# Altium footprint library Connector_THT.PcbLib: 26 footprints (part 1 of 2)
Each footprint in its own frame and in the unit in brackets; x right, y up, seen from the top. Pads: shape width x height; smd on the part's side, far side on the other; paste and mask are expansions set on the pad; w line width, h text height; cw(c..) or ccw(c..) is an arc to the next point about the centre after c.
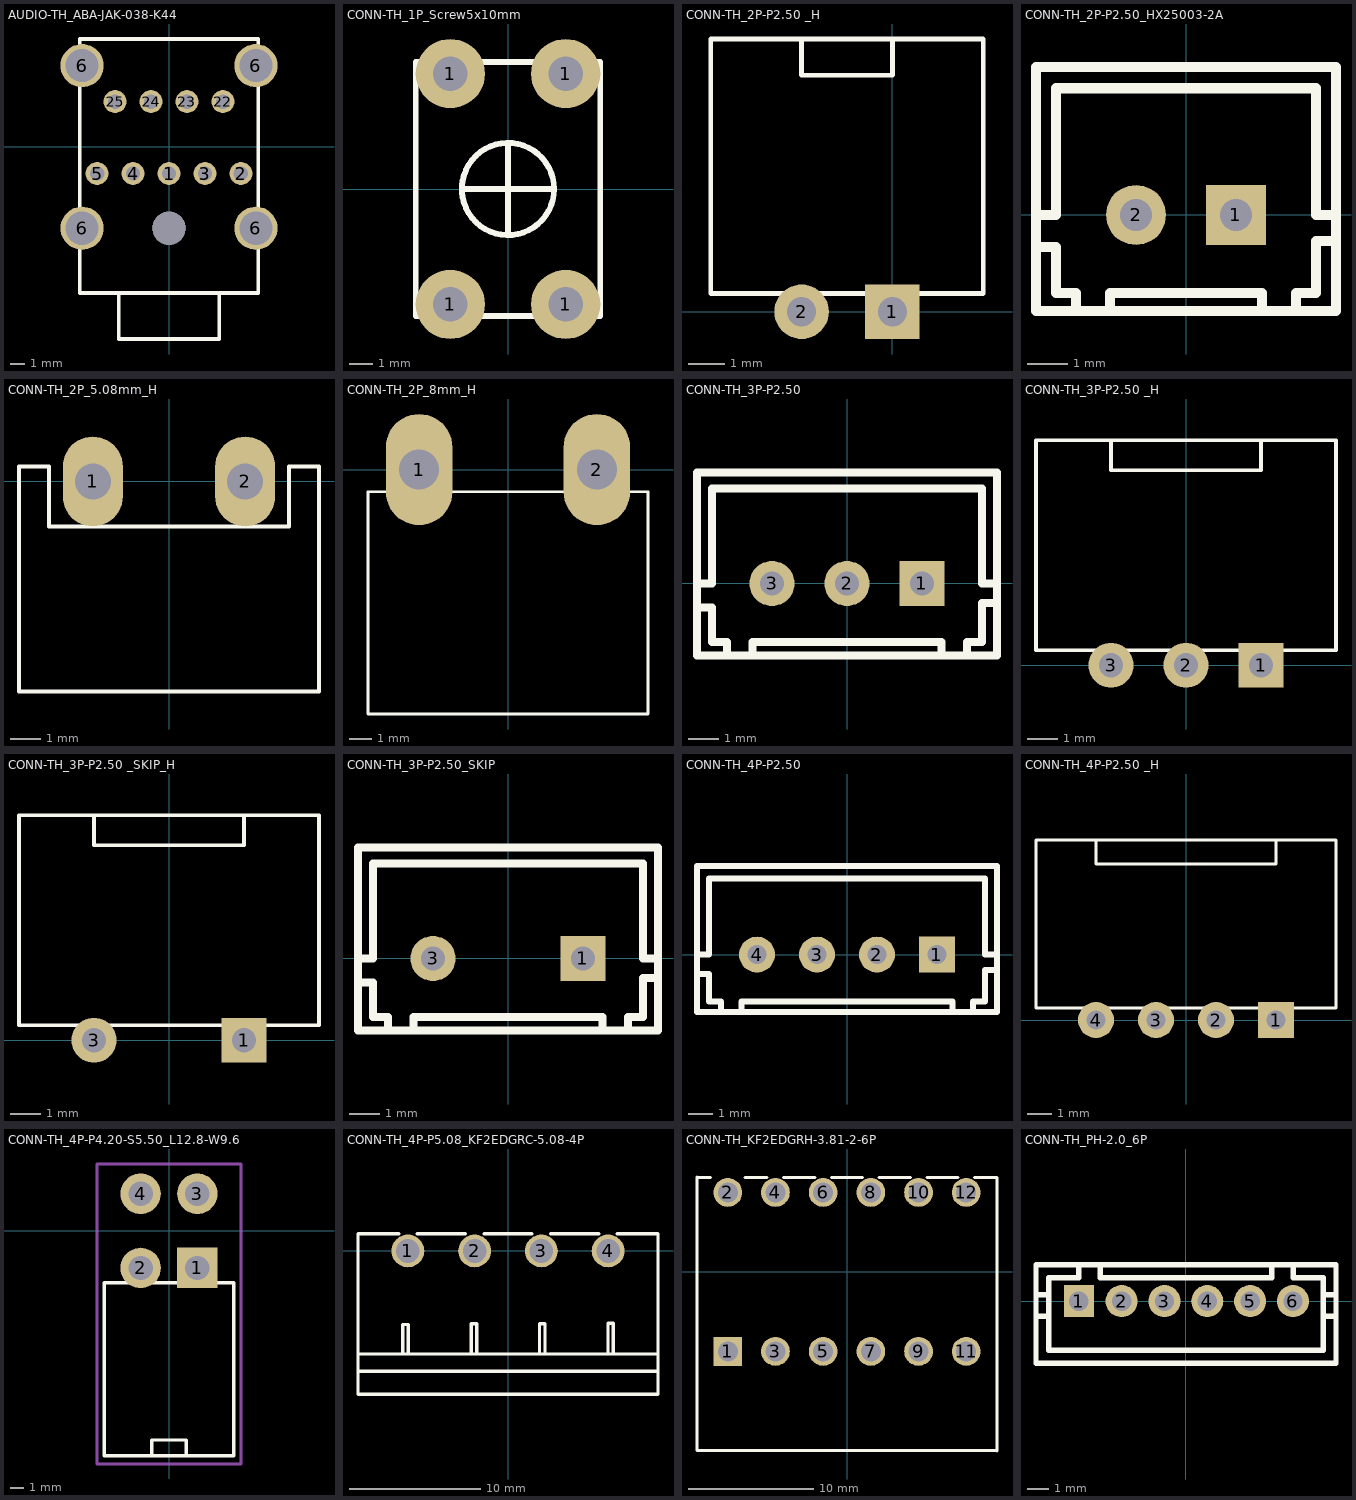
[diagram p0: the footprints below, top view; thin cyan lines are the x and y axes]

## AUDIO-TH_ABA-JAK-038-K44 [mm]
pads (14):
  round 1.6 hole 1: 1(0,-1.85) 2(5,-1.85) 3(2.5,-1.85) 4(-2.5,-1.85) 5(-5,-1.85) 22(3.75,3.15) 23(1.25,3.15) 24(-1.25,3.15) 25(-3.75,3.15)
  round 3 hole 2.3: 6(-6.04,-5.65) 6(-6.04,5.65) 6(6.04,-5.65) 6(6.04,5.65)
  round 2.3 hole 2.3 unplated: ""(0,-5.65)
Top Overlay:
  lines w0.254: -6.2,-6.792 -6.2,-10.15 6.2,-10.15 6.2,-6.792 ; -6.2,-4.508 -6.2,4.508 ; -6.2,6.792 -6.2,7.5 6.2,7.5 6.2,6.792 ; -3.5,-10.15 -3.5,-13.35 3.5,-13.35 3.5,-10.15 ; 6.2,-4.508 6.2,4.508

## CONN-TH_1P_Screw5x10mm [mm]
pads (4):
  round 3 hole 1.5: 1(-2.5,-5) 1(-2.5,5) 1(2.5,-5) 1(2.5,5)
Top Overlay:
  circle w0.254: c0,0 r2
  lines w0.254: -2,0 2,0 ; 0,-2 0,2 ; -4,-5.5 4,-5.5 4,5.5 -4,5.5 -4,-5.5

## CONN-TH_2P-P2.50 _H [mm]
pads (2):
  rect 1.5x1.5 hole 0.8: 1(0,0)
  round 1.5 hole 0.8: 2(-2.5,0)
Top Overlay:
  lines w0.127: -2.5,7.5 -2.5,6.5 0,6.5 0,7.5 ; -5,0.5 -5,7.5 2.5,7.5 2.5,0.5 -5,0.5

## CONN-TH_2P-P2.50_HX25003-2A [mm]
pads (2):
  rect 1.5x1.5 hole 0.8: 1(1.25,0)
  round 1.5 hole 0.8: 2(-1.25,0)
Top Overlay:
  lines w0.254: -3.75,1.501 -3.75,-0.8 -3.25,-0.8 -3.25,-1.95 -2.75,-1.95 -2.75,-2.399 ; -3.75,2.344 -3.75,0 -3.25,0 -3.25,2.344 -3.25,3.167 3.25,3.167 3.25,2.416 3.25,0 3.75,0 3.75,2.416 ; -1.9,-2.4 -1.9,-1.95 1.9,-1.95 1.9,-2.4 ; 2.75,-2.4 2.75,-1.95 3.25,-1.95 3.25,-0.65 3.75,-0.648 3.75,1.603 ; -3.75,-2.4 3.75,-2.4 3.75,3.7 -3.75,3.7 -3.75,-2.4
3D body "User Library-XH2_54_ZC_2P.STEP": height 7.1, standoff -3.9, extent -3.7,-2.35 3.7,3.45

## CONN-TH_2P_5.08mm_H [mm]
pads (2):
  oval 2x3 hole 1.2: 1(-2.54,0) 2(2.54,0)
Top Overlay:
  lines w0.127: -5,-7 -5,0.5 -4,0.5 -4,-1.5 4,-1.5 4,0.5 5,0.5 5,-7 -5,-7

## CONN-TH_2P_8mm_H [mm]
pads (2):
  oval 3x5 hole 1.8: 1(-4,0) 2(4,0)
Top Overlay:
  lines w0.127: -6.3,-11 6.3,-11 6.3,-1 -6.3,-1 -6.3,-11

## CONN-TH_3P-P2.50 [mm]
pads (3):
  rect 1.5x1.5 hole 0.8: 1(2.5,0)
  round 1.5 hole 0.8: 2(0,0) 3(-2.5,0)
Top Overlay:
  lines w0.254: -5,1.501 -5,-0.8 -4.5,-0.8 -4.5,-1.95 -4,-1.95 -4,-2.399 ; -5,2.344 -5,0 -4.5,0 -4.5,2.344 -4.5,3.167 4.5,3.167 4.5,2.416 4.5,0 5,0 5,2.416 ; -3.15,-2.4 -3.15,-1.95 3.15,-1.95 3.15,-2.4 ; 4,-2.4 4,-1.95 4.5,-1.95 4.5,-0.65 5,-0.648 5,1.603 ; -5,-2.4 -5,3.7 5,3.7 5,-2.4 -5,-2.4

## CONN-TH_3P-P2.50 _H [mm]
pads (3):
  rect 1.5x1.5 hole 0.8: 1(2.5,0)
  round 1.5 hole 0.8: 2(0,0) 3(-2.5,0)
Top Overlay:
  lines w0.127: -2.5,7.5 -2.5,6.5 2.5,6.5 2.5,7.5 ; -5,0.5 -5,7.5 5,7.5 5,0.5 -5,0.5

## CONN-TH_3P-P2.50 _SKIP_H [mm]
pads (2):
  rect 1.5x1.5 hole 0.8: 1(2.5,0)
  round 1.5 hole 0.8: 3(-2.5,0)
Top Overlay:
  lines w0.127: -2.5,7.5 -2.5,6.5 2.5,6.5 2.5,7.5 ; -5,0.5 5,0.5 5,7.5 -5,7.5 -5,0.5

## CONN-TH_3P-P2.50_SKIP [mm]
pads (2):
  rect 1.5x1.5 hole 0.8: 1(2.5,0)
  round 1.5 hole 0.8: 3(-2.5,0)
Top Overlay:
  lines w0.254: -5,1.501 -5,-0.8 -4.5,-0.8 -4.5,-1.95 -4,-1.95 -4,-2.399 ; -5,2.344 -5,0 -4.5,0 -4.5,2.344 -4.5,3.167 4.5,3.167 4.5,2.416 4.5,0 5,0 5,2.416 ; -3.15,-2.4 -3.15,-1.95 3.15,-1.95 3.15,-2.4 ; 4,-2.4 4,-1.95 4.5,-1.95 4.5,-0.65 5,-0.648 5,1.603 ; -5,-2.4 -5,3.7 5,3.7 5,-2.4 -5,-2.4

## CONN-TH_4P-P2.50 [mm]
pads (4):
  rect 1.5x1.5 hole 0.8: 1(3.75,0)
  round 1.5 hole 0.8: 2(1.25,0) 3(-1.25,0) 4(-3.75,0)
Top Overlay:
  lines w0.254: -6.25,1.501 -6.25,-0.8 -5.75,-0.8 -5.75,-1.95 -5.25,-1.95 -5.25,-2.399 ; -6.25,2.344 -6.25,0 -5.75,0 -5.75,2.344 -5.75,3.167 5.75,3.167 5.75,2.416 5.75,0 6.25,0 6.25,2.416 ; -4.4,-2.4 -4.4,-1.95 4.4,-1.95 4.4,-2.4 ; 5.25,-2.4 5.25,-1.95 5.75,-1.95 5.75,-0.65 6.25,-0.648 6.25,1.603 ; -6.25,-2.4 6.25,-2.4 6.25,3.7 -6.25,3.7 -6.25,-2.4
3D body "User Library-XH2_54-4P_step.STEP": height 7.1, standoff -1.7, extent -6.25,-2.4 6.25,3.4

## CONN-TH_4P-P2.50 _H [mm]
pads (4):
  rect 1.5x1.5 hole 0.8: 1(3.75,0)
  round 1.5 hole 0.8: 2(1.25,0) 3(-1.25,0) 4(-3.75,0)
Top Overlay:
  lines w0.127: -3.75,7.5 -3.75,6.5 3.75,6.5 3.75,7.5 ; -6.25,0.5 -6.25,7.5 6.25,7.5 6.25,0.5 -6.25,0.5

## CONN-TH_4P-P4.20-S5.50_L12.8-W9.6 [mm]
pads (4):
  rect 3x3 hole 1.8: 1(2.1,-2.75)
  round 3 hole 1.8: 2(-2.1,-2.75) 3(2.1,2.75) 4(-2.1,2.75)
Top Overlay:
  lines w0.254: -1.27,-16.65 -1.27,-15.494 1.27,-15.494 1.27,-16.65 ; -4.8,-16.65 -4.8,-3.85 4.8,-3.85 4.8,-16.65 -4.8,-16.65
Mechanical 15:
  lines w0.2: -5.334,-17.272 -5.334,4.953 5.334,4.953 5.334,-17.272 -5.334,-17.272
3D body "8115982_1586041-4.stp": height 11.8, standoff -3, extent -4.8,-16.764 5.3,3.371

## CONN-TH_4P-P5.08_KF2EDGRC-5.08-4P [mm]
pads (4):
  round 2.5 hole 1.8: 1(-7.62,0) 2(-2.54,0) 3(2.54,0) 4(7.62,0)
Top Overlay:
  lines w0.254: -11.42,-9.17 11.42,-9.17 ; -11.42,-7.85 11.42,-7.85 ; -8.327,1.3 -11.42,1.3 -11.42,-10.9 11.42,-10.9 11.42,1.3 8.327,1.3 8.6,1.3 ; -8.013,-7.85 -8.013,-5.6 -7.6,-5.6 -7.6,-7.85 ; -6.913,1.3 -3.247,1.3 ; -2.8,-7.8 -2.8,-5.551 -2.387,-5.551 -2.387,-7.8 ; -1.833,1.3 1.833,1.3 ; 2.4,-7.8 2.4,-5.551 2.813,-5.551 2.813,-7.8 ; 3.247,1.3 6.913,1.3 ; 7.613,-7.751 7.613,-5.501 8.025,-5.501 8.025,-7.751

## CONN-TH_KF2EDGRH-3.81-2-6P [mm]
pads (12):
  rect 2.3x2.3 hole 1.6: 1(-9.525,-6.35)
  round 2.3 hole 1.6: 2(-9.525,6.35) 3(-5.715,-6.35) 4(-5.715,6.35) 5(-1.905,-6.35) 6(-1.905,6.35) 7(1.905,-6.35) 8(1.905,6.35) 9(5.715,-6.35) 10(5.715,6.35) 11(9.525,-6.35) 12(9.525,6.35)
Top Overlay:
  lines w0.254: -11.985,7.558 -10.899,7.558 ; -11.985,7.57 -11.985,-14.28 11.985,-14.28 ; -8.151,7.558 -6.381,7.558 ; -5.049,7.558 -2.571,7.558 ; -1.239,7.558 1.239,7.558 ; 2.571,7.558 5.049,7.558 ; 6.381,7.558 8.859,7.558 ; 10.191,7.558 11.985,7.558 11.985,-14.291

## CONN-TH_PH-2.0_6P [mm]
pads (6):
  rect 1.4x1.5 hole 0.9: 1(-5,0)
  round 1.5 hole 0.9: 2(-3,0) 3(-1,0) 4(1,0) 5(3,0) 6(5,0)
Top Overlay:
  lines w0.25: -6.998,-0.7 -6.398,-0.7 ; -6.998,0.3 -6.398,0.3 ; -4.998,1.7 -4.998,1.099 -6.398,1.099 -6.398,-2.3 6.398,-2.3 ; -3.998,1.7 -3.998,1.099 3.998,1.099 ; 4.01,1.1 4.01,1.7 ; 5.01,1.7 5.01,1.1 6.41,1.1 6.41,-2.3 ; 6.41,-0.7 7.01,-0.7 ; 6.41,0.3 7.01,0.3 ; 6.998,-2.901 -6.998,-2.901 -6.998,1.7 6.998,1.7 ; 7.01,-2.9 7.01,1.7